# Altium footprint library QFN - QuadFlatNo-lead.PcbLib: 30 footprints (part 2 of 2)
Each footprint in its own frame and in the unit in brackets; x right, y up, seen from the top. Pads: shape width x height; smd on the part's side, far side on the other; paste and mask are expansions set on the pad; w line width, h text height; cw(c..) or ccw(c..) is an arc to the next point about the centre after c.
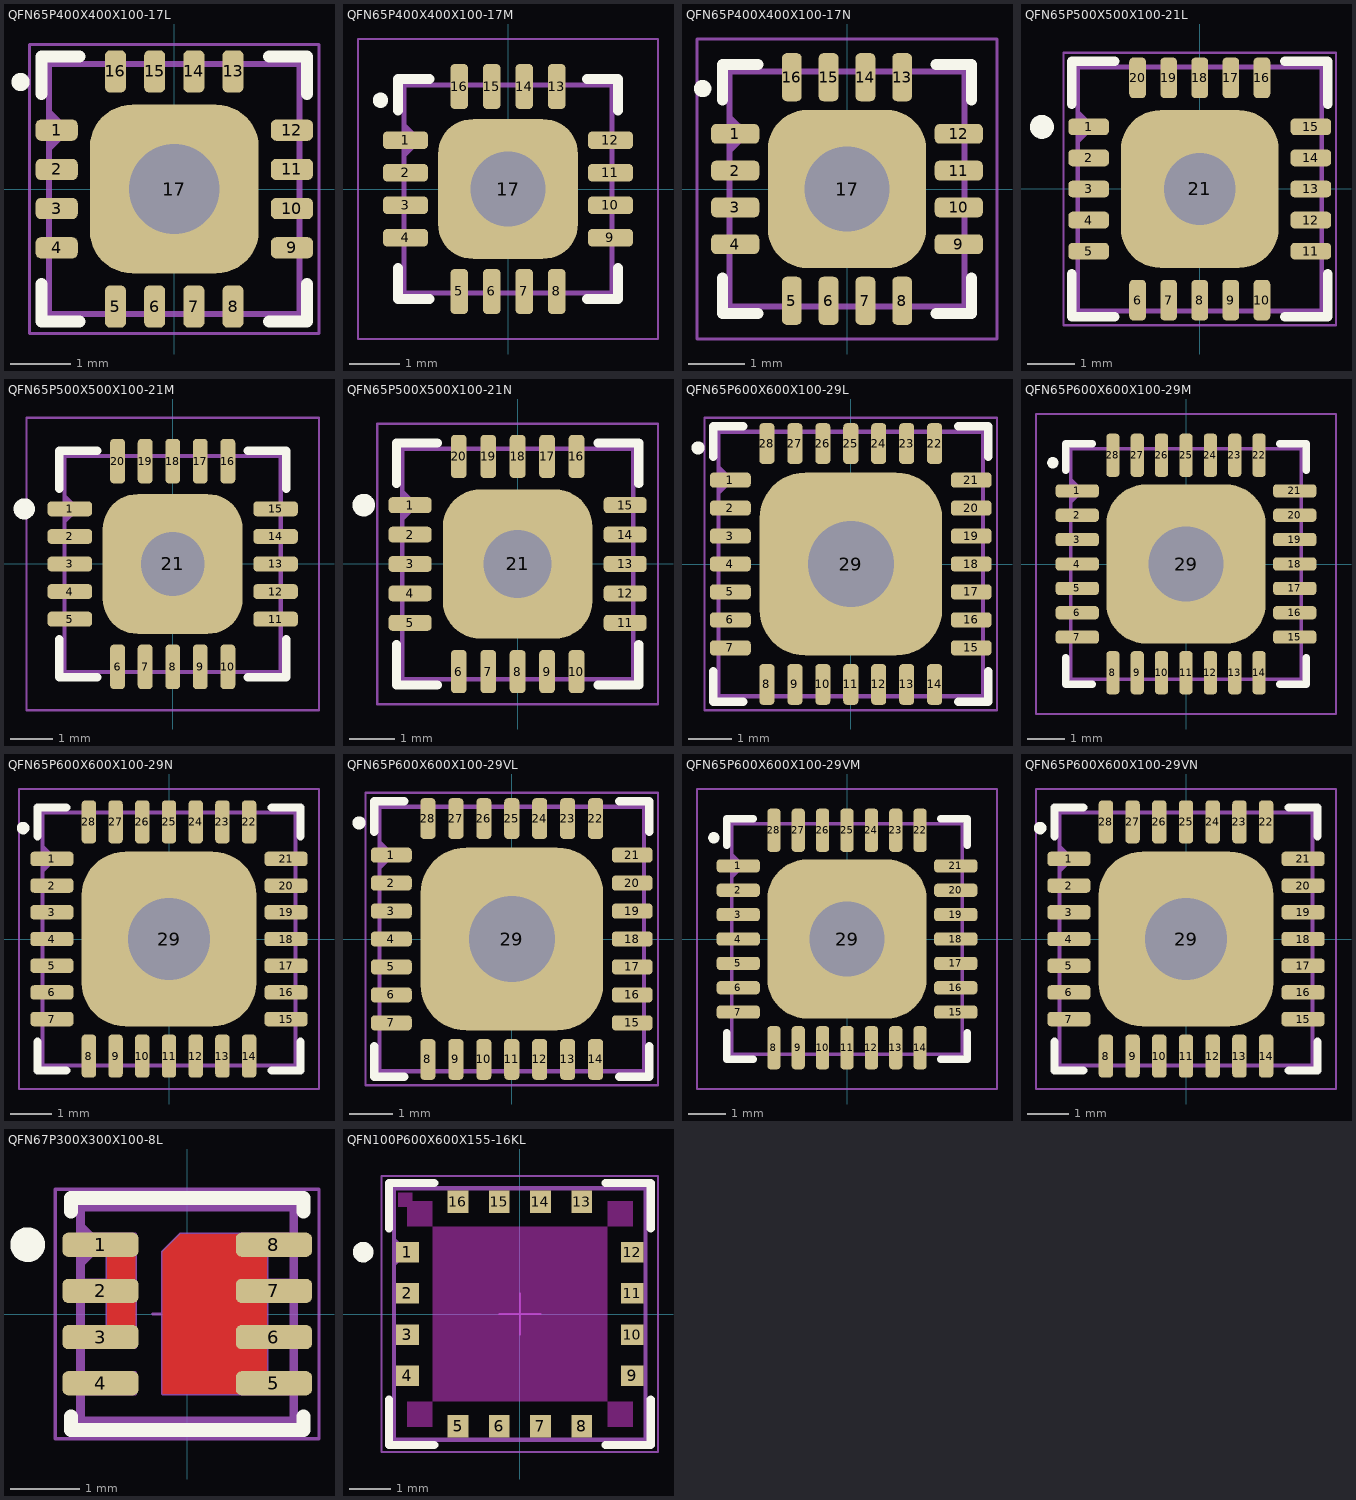
[diagram p1: the footprints below, top view; thin cyan lines are the x and y axes]

## QFN65P400X400X100-17L [mm] "QFN, 17-Leads with tab, Body 4.2x4.2mm (max), Pitch 0.65mm, IPC High Density"
height 1
pads (17):
  rrect50% 0.7x0.35 smd: 1(-1.95,0.975) 2(-1.95,0.325) 3(-1.95,-0.325) 4(-1.95,-0.975) 9(1.95,-0.975) 10(1.95,-0.325) 11(1.95,0.325) 12(1.95,0.975)
  rrect50% 0.35x0.7 smd: 5(-0.975,-1.95) 6(-0.325,-1.95) 7(0.325,-1.95) 8(0.975,-1.95) 13(0.975,1.95) 14(0.325,1.95) 15(-0.325,1.95) 16(-0.975,1.95)
  rrect50% 2.8x2.8 / inner round 2.3 / far side round 2.3 hole 1.5: 17(0,0)
Top Overlay:
  circle w0.254: c-2.55,1.775 r0.025
  lines w0.2: -2.2,-1.575 -2.2,-2.2 -1.575,-2.2 ; -2.2,1.575 -2.2,2.2 -1.575,2.2 ; 1.575,-2.2 2.2,-2.2 2.2,-1.575 ; 1.575,2.2 2.2,2.2 2.2,1.575
TopBody:
  lines w0.1: -2.075,0.675 -1.775,0.975 -2.075,1.275 ; -2.075,0.775 -1.875,0.975 -2.075,1.175 ; -2.075,0.875 -1.975,0.975 -2.075,1.075 ; -2.075,-2.075 -2.075,2.075 2.075,2.075 2.075,-2.075 -2.075,-2.075
TopCourtyard:
  lines w0.05: -0.5,0 0,0 ; 0,-0.5 0,0 ; 0,0.5 0,0 ; 0.5,0 0,0 ; -2.4,-2.4 -2.4,2.4 2.4,2.4 2.4,-2.4 -2.4,-2.4
3D body: height 1, standoff 0.08, extent -2.075,-2.075 2.075,2.075

## QFN65P400X400X100-17M [mm] "QFN, 17-Leads with tab, Body 4.2x4.2mm (max), Pitch 0.65mm, IPC Low Density"
height 1
pads (17):
  rrect50% 0.9x0.35 smd: 1(-2.05,0.975) 2(-2.05,0.325) 3(-2.05,-0.325) 4(-2.05,-0.975) 9(2.05,-0.975) 10(2.05,-0.325) 11(2.05,0.325) 12(2.05,0.975)
  rrect50% 0.35x0.9 smd: 5(-0.975,-2.05) 6(-0.325,-2.05) 7(0.325,-2.05) 8(0.975,-2.05) 13(0.975,2.05) 14(0.325,2.05) 15(-0.325,2.05) 16(-0.975,2.05)
  rrect50% 2.8x2.8 / inner round 2.3 / far side round 2.3 hole 1.5: 17(0,0)
Top Overlay:
  circle w0.254: c-2.55,1.775 r0.025
  lines w0.2: -2.2,-1.575 -2.2,-2.2 -1.575,-2.2 ; -2.2,1.575 -2.2,2.2 -1.575,2.2 ; 1.575,-2.2 2.2,-2.2 2.2,-1.575 ; 1.575,2.2 2.2,2.2 2.2,1.575
TopBody:
  lines w0.1: -2.075,0.675 -1.775,0.975 -2.075,1.275 ; -2.075,0.775 -1.875,0.975 -2.075,1.175 ; -2.075,0.875 -1.975,0.975 -2.075,1.075 ; -2.075,-2.075 -2.075,2.075 2.075,2.075 2.075,-2.075 -2.075,-2.075
TopCourtyard:
  lines w0.05: -0.5,0 0,0 ; 0,-0.5 0,0 ; 0,0.5 0,0 ; 0.5,0 0,0 ; -3,-3 -3,3 3,3 3,-3 -3,-3
3D body: height 1, standoff 0.08, extent -2.075,-2.075 2.075,2.075

## QFN65P400X400X100-17N [mm] "QFN, 17-Leads with tab, Body 4.2x4.2mm (max), Pitch 0.65mm, IPC Medium Density"
height 1
pads (17):
  rrect50% 0.85x0.35 smd mask+0.07: 1(-1.975,0.975) 2(-1.975,0.325) 3(-1.975,-0.325) 4(-1.975,-0.975) 9(1.975,-0.975) 10(1.975,-0.325) 11(1.975,0.325) 12(1.975,0.975)
  rrect50% 0.35x0.85 smd mask+0.07: 5(-0.975,-1.975) 6(-0.325,-1.975) 7(0.325,-1.975) 8(0.975,-1.975) 13(0.975,1.975) 14(0.325,1.975) 15(-0.325,1.975) 16(-0.975,1.975)
  rrect50% 2.8x2.8 / inner round 2.3 / far side round 2.3 hole 1.5: 17(0,0)
Top Overlay:
  circle w0.254: c-2.55,1.775 r0.025
  lines w0.2: -2.2,-1.575 -2.2,-2.2 -1.575,-2.2 ; -2.2,1.575 -2.2,2.2 -1.575,2.2 ; 1.575,-2.2 2.2,-2.2 2.2,-1.575 ; 1.575,2.2 2.2,2.2 2.2,1.575
TopBody:
  lines w0.1: -2.075,0.675 -1.775,0.975 -2.075,1.275 ; -2.075,0.775 -1.875,0.975 -2.075,1.175 ; -2.075,0.875 -1.975,0.975 -2.075,1.075 ; -2.075,-2.075 -2.075,2.075 2.075,2.075 2.075,-2.075 -2.075,-2.075
TopCourtyard:
  lines w0.05: -0.5,0 0,0 ; 0,-0.5 0,0 ; 0,0.5 0,0 ; 0.5,0 0,0 ; -2.65,-2.65 -2.65,2.65 2.65,2.65 2.65,-2.65 -2.65,-2.65
3D body: height 1, standoff 0.08, extent -2.075,-2.075 2.075,2.075

## QFN65P500X500X100-21L [mm] "QFN, 21-Leads with tab, Body 5.1x5.1mm (max), Pitch 0.65mm, IPC High Density"
height 1
pads (21):
  rrect50% 0.85x0.35 smd: 1(-2.325,1.3) 2(-2.325,0.65) 3(-2.325,0) 4(-2.325,-0.65) 5(-2.325,-1.3) 11(2.325,-1.3) 12(2.325,-0.65) 13(2.325,0) 14(2.325,0.65) 15(2.325,1.3)
  rrect50% 0.35x0.85 smd: 6(-1.3,-2.325) 7(-0.65,-2.325) 8(0,-2.325) 9(0.65,-2.325) 10(1.3,-2.325) 16(1.3,2.325) 17(0.65,2.325) 18(0,2.325) 19(-0.65,2.325) 20(-1.3,2.325)
  rrect50% 3.3x3.3 / inner rrect50% 2.3x2.3 / far side rrect50% 2.3x2.3 hole 1.5: 21(0,0)
Top Overlay:
  circle w0.25: c-3.3,1.3 r0.125
  lines w0.2: -2.675,-1.775 -2.675,-2.675 -1.775,-2.675 ; -2.675,1.775 -2.675,2.675 -1.775,2.675 ; 1.775,-2.675 2.675,-2.675 2.675,-1.775 ; 1.775,2.675 2.675,2.675 2.675,1.775
TopBody:
  lines w0.1: -2.55,1 -2.25,1.3 -2.55,1.6 ; -2.55,1.1 -2.35,1.3 -2.55,1.5 ; -2.55,1.2 -2.45,1.3 -2.55,1.4 ; -2.55,-2.55 -2.55,2.55 2.55,2.55 2.55,-2.55 -2.55,-2.55
TopCourtyard:
  lines w0.05: -0.5,0 0,0 ; 0,-0.5 0,0 ; 0,0.5 0,0 ; 0.5,0 0,0 ; -2.85,-2.85 -2.85,2.85 2.85,2.85 2.85,-2.85 -2.85,-2.85
3D body: height 1, standoff 0, extent -2.55,-2.55 2.55,2.55

## QFN65P500X500X100-21M [mm] "QFN, 21-Leads with tab, Body 5.1x5.1mm (max), Pitch 0.65mm, IPC Low Density"
height 1
pads (21):
  rrect50% 1.05x0.35 smd: 1(-2.425,1.3) 2(-2.425,0.65) 3(-2.425,0) 4(-2.425,-0.65) 5(-2.425,-1.3) 11(2.425,-1.3) 12(2.425,-0.65) 13(2.425,0) 14(2.425,0.65) 15(2.425,1.3)
  rrect50% 0.35x1.05 smd: 6(-1.3,-2.425) 7(-0.65,-2.425) 8(0,-2.425) 9(0.65,-2.425) 10(1.3,-2.425) 16(1.3,2.425) 17(0.65,2.425) 18(0,2.425) 19(-0.65,2.425) 20(-1.3,2.425)
  rrect50% 3.3x3.3 / inner rrect50% 2.3x2.3 / far side rrect50% 2.3x2.3 hole 1.5: 21(0,0)
Top Overlay:
  circle w0.25: c-3.5,1.3 r0.125
  lines w0.2: -2.675,-1.775 -2.675,-2.675 -1.775,-2.675 ; -2.675,1.775 -2.675,2.675 -1.775,2.675 ; 1.775,-2.675 2.675,-2.675 2.675,-1.775 ; 1.775,2.675 2.675,2.675 2.675,1.775
TopBody:
  lines w0.1: -2.55,1 -2.25,1.3 -2.55,1.6 ; -2.55,1.1 -2.35,1.3 -2.55,1.5 ; -2.55,1.2 -2.45,1.3 -2.55,1.4 ; -2.55,-2.55 2.55,-2.55 2.55,2.55 -2.55,2.55 -2.55,-2.55
TopCourtyard:
  lines w0.05: -0.5,0 0,0 ; 0,-0.5 0,0 ; 0,0.5 0,0 ; 0.5,0 0,0 ; -3.45,-3.45 3.45,-3.45 3.45,3.45 -3.45,3.45 -3.45,-3.45
3D body: height 1, standoff 0, extent -2.55,-2.55 2.55,2.55

## QFN65P500X500X100-21N [mm] "QFN, 21-Leads with tab, Body 5.1x5.1mm (max), Pitch 0.65mm, IPC Medium Density"
height 1
pads (21):
  rrect50% 0.95x0.35 smd: 1(-2.375,1.3) 2(-2.375,0.65) 3(-2.375,0) 4(-2.375,-0.65) 5(-2.375,-1.3) 11(2.375,-1.3) 12(2.375,-0.65) 13(2.375,0) 14(2.375,0.65) 15(2.375,1.3)
  rrect50% 0.35x0.95 smd: 6(-1.3,-2.375) 7(-0.65,-2.375) 8(0,-2.375) 9(0.65,-2.375) 10(1.3,-2.375) 16(1.3,2.375) 17(0.65,2.375) 18(0,2.375) 19(-0.65,2.375) 20(-1.3,2.375)
  rrect50% 3.3x3.3 / inner rrect50% 2.3x2.3 / far side rrect50% 2.3x2.3 hole 1.5: 21(0,0)
Top Overlay:
  circle w0.25: c-3.4,1.3 r0.125
  lines w0.2: -2.675,-1.775 -2.675,-2.675 -1.775,-2.675 ; -2.675,1.775 -2.675,2.675 -1.775,2.675 ; 1.775,-2.675 2.675,-2.675 2.675,-1.775 ; 1.775,2.675 2.675,2.675 2.675,1.775
TopBody:
  lines w0.1: -2.55,1 -2.25,1.3 -2.55,1.6 ; -2.55,1.1 -2.35,1.3 -2.55,1.5 ; -2.55,1.2 -2.45,1.3 -2.55,1.4 ; -2.55,-2.55 -2.55,2.55 2.55,2.55 2.55,-2.55 -2.55,-2.55
TopCourtyard:
  lines w0.05: -0.5,0 0,0 ; 0,-0.5 0,0 ; 0,0.5 0,0 ; 0.5,0 0,0 ; -3.1,-3.1 -3.1,3.1 3.1,3.1 3.1,-3.1 -3.1,-3.1
3D body: height 1, standoff 0, extent -2.55,-2.55 2.55,2.55

## QFN65P600X600X100-29L [mm] "QFN, 29-Leads with tab, Body 6x6x1 mm, Pitch 0.65mm, IPC High Density"
height 1
pads (29):
  rrect50% 0.95x0.35 smd: 1(-2.8,1.95) 2(-2.8,1.3) 3(-2.8,0.65) 4(-2.8,0) 5(-2.8,-0.65) 6(-2.8,-1.3) 7(-2.8,-1.95) 15(2.8,-1.95) 16(2.8,-1.3) 17(2.8,-0.65) 18(2.8,0) 19(2.8,0.65) 20(2.8,1.3) 21(2.8,1.95)
  rrect50% 0.35x0.95 smd: 8(-1.95,-2.8) 9(-1.3,-2.8) 10(-0.65,-2.8) 11(0,-2.8) 12(0.65,-2.8) 13(1.3,-2.8) 14(1.95,-2.8) 22(1.95,2.8) 23(1.3,2.8) 24(0.65,2.8) 25(0,2.8) 26(-0.65,2.8) 27(-1.3,2.8) 28(-1.95,2.8)
  rrect50% 4.25x4.25 / inner round 3 / far side round 3 hole 2: 29(0,0)
Top Overlay:
  circle w0.254: c-3.55,2.7 r0.025
  lines w0.2: -3.2,-2.5 -3.2,-3.2 -2.5,-3.2 ; -3.2,2.5 -3.2,3.2 -2.5,3.2 ; 2.5,-3.2 3.2,-3.2 3.2,-2.5 ; 2.5,3.2 3.2,3.2 3.2,2.5
TopBody:
  lines w0.1: -3.075,1.65 -2.775,1.95 -3.075,2.25 ; -3.075,1.75 -2.875,1.95 -3.075,2.15 ; -3.075,1.85 -2.975,1.95 -3.075,2.05 ; -3.075,-3.075 3.075,-3.075 3.075,3.075 -3.075,3.075 -3.075,-3.075
TopCourtyard:
  lines w0.05: -0.5,0 0,0 ; 0,-0.5 0,0 ; 0,0.5 0,0 ; 0.5,0 0,0 ; -3.4,-3.4 3.4,-3.4 3.4,3.4 -3.4,3.4 -3.4,-3.4
3D body: height 1, standoff 0, extent -3.075,-3.075 3.075,3.075

## QFN65P600X600X100-29M [mm] "QFN, 29-Leads with tab, Body 6x6x1 mm, Pitch 0.65mm, IPC Low Density"
height 1
pads (29):
  rrect50% 1.15x0.35 smd: 1(-2.9,1.95) 2(-2.9,1.3) 3(-2.9,0.65) 4(-2.9,0) 5(-2.9,-0.65) 6(-2.9,-1.3) 7(-2.9,-1.95) 15(2.9,-1.95) 16(2.9,-1.3) 17(2.9,-0.65) 18(2.9,0) 19(2.9,0.65) 20(2.9,1.3) 21(2.9,1.95)
  rrect50% 0.35x1.15 smd: 8(-1.95,-2.9) 9(-1.3,-2.9) 10(-0.65,-2.9) 11(0,-2.9) 12(0.65,-2.9) 13(1.3,-2.9) 14(1.95,-2.9) 22(1.95,2.9) 23(1.3,2.9) 24(0.65,2.9) 25(0,2.9) 26(-0.65,2.9) 27(-1.3,2.9) 28(-1.95,2.9)
  rrect50% 4.25x4.25 / inner round 3 / far side round 3 hole 2: 29(0,0)
Top Overlay:
  circle w0.254: c-3.55,2.7 r0.025
  lines w0.2: -3.2,-2.5 -3.2,-3.2 -2.5,-3.2 ; -3.2,2.5 -3.2,3.2 -2.5,3.2 ; 2.5,-3.2 3.2,-3.2 3.2,-2.5 ; 2.5,3.2 3.2,3.2 3.2,2.5
TopBody:
  lines w0.1: -3.075,1.65 -2.775,1.95 -3.075,2.25 ; -3.075,1.75 -2.875,1.95 -3.075,2.15 ; -3.075,1.85 -2.975,1.95 -3.075,2.05 ; -3.075,-3.075 3.075,-3.075 3.075,3.075 -3.075,3.075 -3.075,-3.075
TopCourtyard:
  lines w0.05: -0.5,0 0,0 ; 0,-0.5 0,0 ; 0,0.5 0,0 ; 0.5,0 0,0 ; -4,-4 4,-4 4,4 -4,4 -4,-4
3D body: height 1, standoff 0, extent -3.075,-3.075 3.075,3.075

## QFN65P600X600X100-29N [mm] "QFN, 29-Leads with tab, Body 6x6x1 mm, Pitch 0.65mm, IPC Medium Density"
height 1
pads (29):
  rrect50% 1.05x0.35 smd: 1(-2.85,1.95) 2(-2.85,1.3) 3(-2.85,0.65) 4(-2.85,0) 5(-2.85,-0.65) 6(-2.85,-1.3) 7(-2.85,-1.95) 15(2.85,-1.95) 16(2.85,-1.3) 17(2.85,-0.65) 18(2.85,0) 19(2.85,0.65) 20(2.85,1.3) 21(2.85,1.95)
  rrect50% 0.35x1.05 smd: 8(-1.95,-2.85) 9(-1.3,-2.85) 10(-0.65,-2.85) 11(0,-2.85) 12(0.65,-2.85) 13(1.3,-2.85) 14(1.95,-2.85) 22(1.95,2.85) 23(1.3,2.85) 24(0.65,2.85) 25(0,2.85) 26(-0.65,2.85) 27(-1.3,2.85) 28(-1.95,2.85)
  rrect50% 4.25x4.25 / inner round 3 / far side round 3 hole 2: 29(0,0)
Top Overlay:
  circle w0.254: c-3.55,2.7 r0.025
  lines w0.2: -3.2,-2.5 -3.2,-3.2 -2.5,-3.2 ; -3.2,2.5 -3.2,3.2 -2.5,3.2 ; 2.5,-3.2 3.2,-3.2 3.2,-2.5 ; 2.5,3.2 3.2,3.2 3.2,2.5
TopBody:
  lines w0.1: -3.075,1.65 -2.775,1.95 -3.075,2.25 ; -3.075,1.75 -2.875,1.95 -3.075,2.15 ; -3.075,1.85 -2.975,1.95 -3.075,2.05 ; -3.075,-3.075 -3.075,3.075 3.075,3.075 3.075,-3.075 -3.075,-3.075
TopCourtyard:
  lines w0.05: -0.5,0 0,0 ; 0,-0.5 0,0 ; 0,0.5 0,0 ; 0.5,0 0,0 ; -3.65,-3.65 -3.65,3.65 3.65,3.65 3.65,-3.65 -3.65,-3.65
3D body: height 1, standoff 0, extent -3.075,-3.075 3.075,3.075

## QFN65P600X600X100-29VL [mm] "QFN, 29-Leads with tab and via, Body 6x6x1 mm, Pitch 0.65mm, IPC High Density"
height 1
pads (29):
  rrect50% 0.95x0.35 smd: 1(-2.8,1.95) 2(-2.8,1.3) 3(-2.8,0.65) 4(-2.8,0) 5(-2.8,-0.65) 6(-2.8,-1.3) 7(-2.8,-1.95) 15(2.8,-1.95) 16(2.8,-1.3) 17(2.8,-0.65) 18(2.8,0) 19(2.8,0.65) 20(2.8,1.3) 21(2.8,1.95)
  rrect50% 0.35x0.95 smd: 8(-1.95,-2.8) 9(-1.3,-2.8) 10(-0.65,-2.8) 11(0,-2.8) 12(0.65,-2.8) 13(1.3,-2.8) 14(1.95,-2.8) 22(1.95,2.8) 23(1.3,2.8) 24(0.65,2.8) 25(0,2.8) 26(-0.65,2.8) 27(-1.3,2.8) 28(-1.95,2.8)
  rrect50% 4.25x4.25 / inner round 3 / far side round 3 hole 2: 29(0,0)
Top Overlay:
  circle w0.254: c-3.55,2.7 r0.025
  lines w0.2: -3.2,-2.5 -3.2,-3.2 -2.5,-3.2 ; -3.2,2.5 -3.2,3.2 -2.5,3.2 ; 2.5,-3.2 3.2,-3.2 3.2,-2.5 ; 2.5,3.2 3.2,3.2 3.2,2.5
TopBody:
  lines w0.1: -3.075,1.65 -2.775,1.95 -3.075,2.25 ; -3.075,1.75 -2.875,1.95 -3.075,2.15 ; -3.075,1.85 -2.975,1.95 -3.075,2.05 ; -3.075,-3.075 3.075,-3.075 3.075,3.075 -3.075,3.075 -3.075,-3.075
TopCourtyard:
  lines w0.05: -0.5,0 0,0 ; 0,-0.5 0,0 ; 0,0.5 0,0 ; 0.5,0 0,0 ; -3.4,-3.4 3.4,-3.4 3.4,3.4 -3.4,3.4 -3.4,-3.4
3D body: height 1, standoff 0, extent -3.075,-3.075 3.075,3.075

## QFN65P600X600X100-29VM [mm] "QFN, 29-Leads with tab and via, Body 6x6x1 mm, Pitch 0.65mm, IPC Low Density"
height 1
pads (29):
  rrect50% 1.15x0.35 smd: 1(-2.9,1.95) 2(-2.9,1.3) 3(-2.9,0.65) 4(-2.9,0) 5(-2.9,-0.65) 6(-2.9,-1.3) 7(-2.9,-1.95) 15(2.9,-1.95) 16(2.9,-1.3) 17(2.9,-0.65) 18(2.9,0) 19(2.9,0.65) 20(2.9,1.3) 21(2.9,1.95)
  rrect50% 0.35x1.15 smd: 8(-1.95,-2.9) 9(-1.3,-2.9) 10(-0.65,-2.9) 11(0,-2.9) 12(0.65,-2.9) 13(1.3,-2.9) 14(1.95,-2.9) 22(1.95,2.9) 23(1.3,2.9) 24(0.65,2.9) 25(0,2.9) 26(-0.65,2.9) 27(-1.3,2.9) 28(-1.95,2.9)
  rrect50% 4.25x4.25 / inner round 3 / far side round 3 hole 2: 29(0,0)
Top Overlay:
  circle w0.254: c-3.55,2.7 r0.025
  lines w0.2: -3.2,-2.5 -3.2,-3.2 -2.5,-3.2 ; -3.2,2.5 -3.2,3.2 -2.5,3.2 ; 2.5,-3.2 3.2,-3.2 3.2,-2.5 ; 2.5,3.2 3.2,3.2 3.2,2.5
TopBody:
  lines w0.1: -3.075,1.65 -2.775,1.95 -3.075,2.25 ; -3.075,1.75 -2.875,1.95 -3.075,2.15 ; -3.075,1.85 -2.975,1.95 -3.075,2.05 ; -3.075,-3.075 3.075,-3.075 3.075,3.075 -3.075,3.075 -3.075,-3.075
TopCourtyard:
  lines w0.05: -0.5,0 0,0 ; 0,-0.5 0,0 ; 0,0.5 0,0 ; 0.5,0 0,0 ; -4,-4 4,-4 4,4 -4,4 -4,-4
3D body: height 1, standoff 0, extent -3.075,-3.075 3.075,3.075

## QFN65P600X600X100-29VN [mm] "QFN, 29-Leads with tab and via, Body 6x6x1 mm, Pitch 0.65mm, IPC Medium Density"
height 1
pads (29):
  rrect50% 1.05x0.35 smd: 1(-2.85,1.95) 2(-2.85,1.3) 3(-2.85,0.65) 4(-2.85,0) 5(-2.85,-0.65) 6(-2.85,-1.3) 7(-2.85,-1.95) 15(2.85,-1.95) 16(2.85,-1.3) 17(2.85,-0.65) 18(2.85,0) 19(2.85,0.65) 20(2.85,1.3) 21(2.85,1.95)
  rrect50% 0.35x1.05 smd: 8(-1.95,-2.85) 9(-1.3,-2.85) 10(-0.65,-2.85) 11(0,-2.85) 12(0.65,-2.85) 13(1.3,-2.85) 14(1.95,-2.85) 22(1.95,2.85) 23(1.3,2.85) 24(0.65,2.85) 25(0,2.85) 26(-0.65,2.85) 27(-1.3,2.85) 28(-1.95,2.85)
  rrect50% 4.25x4.25 / inner round 3 / far side round 3 hole 2: 29(0,0)
Top Overlay:
  circle w0.254: c-3.55,2.7 r0.025
  lines w0.2: -3.2,-2.5 -3.2,-3.2 -2.5,-3.2 ; -3.2,2.5 -3.2,3.2 -2.5,3.2 ; 2.5,-3.2 3.2,-3.2 3.2,-2.5 ; 2.5,3.2 3.2,3.2 3.2,2.5
TopBody:
  lines w0.1: -3.075,1.65 -2.775,1.95 -3.075,2.25 ; -3.075,1.75 -2.875,1.95 -3.075,2.15 ; -3.075,1.85 -2.975,1.95 -3.075,2.05 ; -3.075,-3.075 3.075,-3.075 3.075,3.075 -3.075,3.075 -3.075,-3.075
TopCourtyard:
  lines w0.05: -0.5,0 0,0 ; 0,-0.5 0,0 ; 0,0.5 0,0 ; 0.5,0 0,0 ; -3.65,-3.65 3.65,-3.65 3.65,3.65 -3.65,3.65 -3.65,-3.65
3D body: height 1, standoff 0, extent -3.075,-3.075 3.075,3.075

## QFN67P300X300X100-8L [mm] "For IRFH3702 (or equivalent) transistor"
height 1
pads (8):
  rrect50% 1.1x0.35 smd mask+0.07: 1(-1.25,0.999) 2(-1.25,0.333) 3(-1.25,-0.333) 4(-1.25,-0.999) 5(1.25,-0.999) 6(1.25,-0.333) 7(1.25,0.333) 8(1.25,0.999)
Top Layer:
  region: -1.15,1.15 -0.75,1.15 -0.75,-0.482 -1.15,-0.482
  region: 1.15,1.15 -0.1,1.15 -0.35,0.9 -0.35,-1.15 1.15,-1.15
Top Overlay:
  circle w0.25: c-2.3,0.999 r0.125
  lines w0.2: -1.675,-1.475 -1.675,-1.675 1.675,-1.675 1.675,-1.475 ; -1.675,1.475 -1.675,1.675 1.675,1.675 1.675,1.475
Top Paste:
  region: -0.167,0.967 0.3,0.967 0.3,-0.966 -0.167,-0.966
Top Solder:
  rectangle: -1.15,-0.482 -0.75,1.15
  region: 1.15,1.15 -0.1,1.15 -0.35,0.9 -0.35,-1.15 1.15,-1.15
Notes:
  lines w0.05: -1.5,-1.148 -0.75,-1.148 -0.75,-0.848 -1.5,-0.848 ; -1.5,-0.482 -0.75,-0.482 -0.75,1.15 -1.5,1.15 ; -1.5,-0.182 -1.15,-0.182 -1.15,0.184 -1.5,0.184 ; -1.5,0.484 -1.15,0.484 -1.15,0.85 -1.5,0.85 ; 1.5,-1.15 -0.35,-1.15 -0.35,0.9 -0.1,1.15 1.5,1.15 ; 1.5,-0.848 1.15,-0.848 1.15,-0.482 1.5,-0.482 ; 1.5,-0.182 1.15,-0.182 1.15,0.184 1.5,0.184 ; 1.5,0.484 1.15,0.484 1.15,0.85 1.5,0.85 ; -1.5,-1.5 -1.5,1.5 1.5,1.5 1.5,-1.5 -1.5,-1.5
TopBody:
  lines w0.1: -1.55,0.7 -1.25,1 -1.55,1.3 ; -1.55,0.8 -1.35,1 -1.55,1.2 ; -1.55,0.9 -1.45,1 -1.55,1.1 ; -1.55,-1.55 -1.55,1.55 1.55,1.55 1.55,-1.55 -1.55,-1.55
TopCourtyard:
  lines w0.05: -0.5,0 0,0 ; 0,-0.5 0,0 ; 0,0.5 0,0 ; 0.5,0 0,0 ; -1.9,-1.8 -1.9,1.8 1.9,1.8 1.9,-1.8 -1.9,-1.8
3D body: height 1, standoff 0, extent -1.55,-1.55 1.55,1.55

## QFN100P600X600X155-16KL [mm] "QFN, 16-Leads, Body 6.1x6.1mm (max), Pitch 1.00mm, IPC High Density, Tab KeepOut"
height 1.55
pads (16):
  rect 0.55x0.5 smd: 1(-2.725,1.5) 2(-2.725,0.5) 3(-2.725,-0.5) 4(-2.725,-1.5) 9(2.725,-1.5) 10(2.725,-0.5) 11(2.725,0.5) 12(2.725,1.5)
  rect 0.5x0.55 smd: 5(-1.5,-2.725) 6(-0.5,-2.725) 7(0.5,-2.725) 8(1.5,-2.725) 13(1.5,2.725) 14(0.5,2.725) 15(-0.5,2.725) 16(-1.5,2.725)
Top Layer keep-out:
  region: -2.6,2.95 -2.95,2.95 -2.95,2.6 -2.6,2.6
  region: -2.12,2.12 -2.12,2.74 -2.74,2.74 -2.74,2.12
  region: -2.12,-2.12 -2.74,-2.12 -2.74,-2.74 -2.12,-2.74
  region: 2.12,-2.12 2.12,-2.74 2.74,-2.74 2.74,-2.12
  rectangle: 2.12,2.12 2.74,2.74
  rectangle: -2.12,-2.12 2.12,2.12
Top Overlay:
  circle w0.25: c-3.8,1.5 r0.125
  lines w0.2: -3.175,-2.075 -3.175,-3.175 -2.075,-3.175 ; -3.175,2.075 -3.175,3.175 -2.075,3.175 ; 2.075,-3.175 3.175,-3.175 3.175,-2.075 ; 2.075,3.175 3.175,3.175 3.175,2.075
TopBody:
  lines w0.1: -3.05,1.2 -2.75,1.5 -3.05,1.8 ; -3.05,1.3 -2.85,1.5 -3.05,1.7 ; -3.05,1.4 -2.95,1.5 -3.05,1.6 ; -3.05,-3.05 3.05,-3.05 3.05,3.05 -3.05,3.05 -3.05,-3.05
TopCourtyard:
  lines w0.05: -0.5,0 0,0 ; 0,-0.5 0,0 ; 0,0.5 0,0 ; 0.5,0 0,0 ; -3.35,-3.35 3.35,-3.35 3.35,3.35 -3.35,3.35 -3.35,-3.35
3D body: height 1.55, standoff 0, extent -3.05,-3.05 3.05,3.05